# EAGLE library part AS3691 (library be_driver)
LED driver made by AMS drawn: Mario Blunk / Blunk electronic
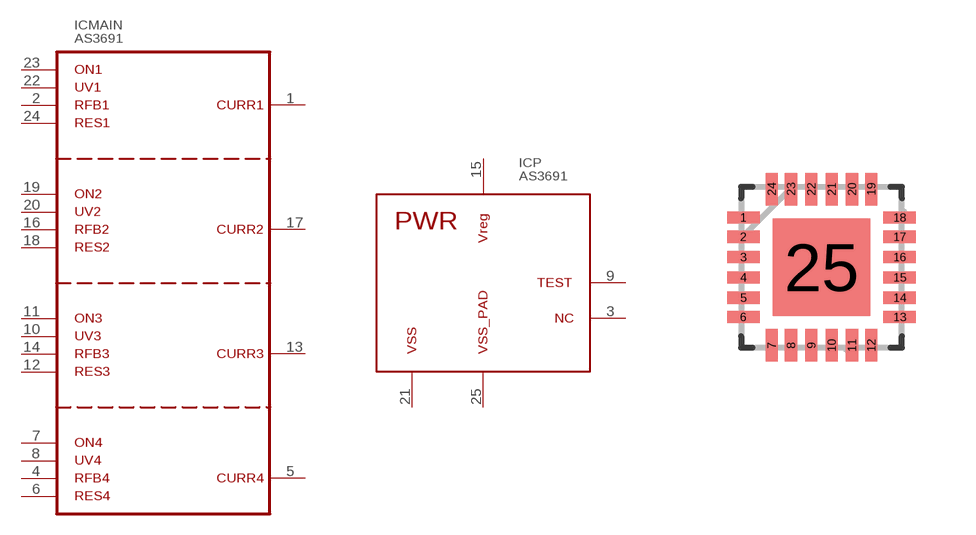
[diagram p4: symbol with the pads of S_QFN24_HEATSINK; footprint S_QFN24_HEATSINK]

Designator prefix IC; gates MAIN=AS3691 P=AS3691_PWR

## AS3691A-ZQFP (BOM: YES; COMMISSIONED: 2013-09-17; PART_CODE_BEL: IC_PAC_S_QFN24_HEATSINK_VAL_AS3691)  [S_QFN24_HEATSINK]
1  MAIN:CURR1  pas
2  MAIN:RFB1  pas
3  P:NC  nc
4  MAIN:RFB4  pas
5  MAIN:CURR4  pas
6  MAIN:RES4  pas
7  MAIN:ON4  in
8  MAIN:UV4  pas
9  P:TEST  in
10  MAIN:UV3  pas
11  MAIN:ON3  in
12  MAIN:RES3  pas
13  MAIN:CURR3  pas
14  MAIN:RFB3  pas
15  P:VREG  pwr
16  MAIN:RFB2  pas
17  MAIN:CURR2  pas
18  MAIN:RES2  pas
19  MAIN:ON2  in
20  MAIN:UV2  pas
21  P:VSS  pwr
22  MAIN:UV1  pas
23  MAIN:ON1  in
24  MAIN:RES1  pas
25  P:VSS_PAD  pwr

## Footprint S_QFN24_HEATSINK (pad centres in mm)
drawn: Mario Blunk / Blunk electronic date: 2013-09-17
smd 0.813 x 0.305: 1 -1.956,1.245; 2 -1.956,0.762; 3 -1.956,0.254; 4 -1.956,-0.254; 5 -1.956,-0.762; 6 -1.956,-1.245; 13 1.956,-1.245; 14 1.956,-0.762; 15 1.956,-0.254; 16 1.956,0.254; 17 1.956,0.762; 18 1.956,1.245
smd 0.305 x 0.813: 7 -1.245,-1.956; 8 -0.762,-1.956; 9 -0.254,-1.956; 10 0.254,-1.956; 11 0.762,-1.956; 12 1.245,-1.956; 19 1.245,1.956; 20 0.762,1.956; 21 0.254,1.956; 22 -0.254,1.956; 23 -0.762,1.956; 24 -1.245,1.956
smd 2.438 x 2.438: 25 0,0